# Altium footprint library Parts.PcbLib: 52 footprints (part 4 of 4)
Each footprint in its own frame and in the unit in brackets; x right, y up, seen from the top. Pads: shape width x height; smd on the part's side, far side on the other; paste and mask are expansions set on the pad; w line width, h text height; cw(c..) or ccw(c..) is an arc to the next point about the centre after c.
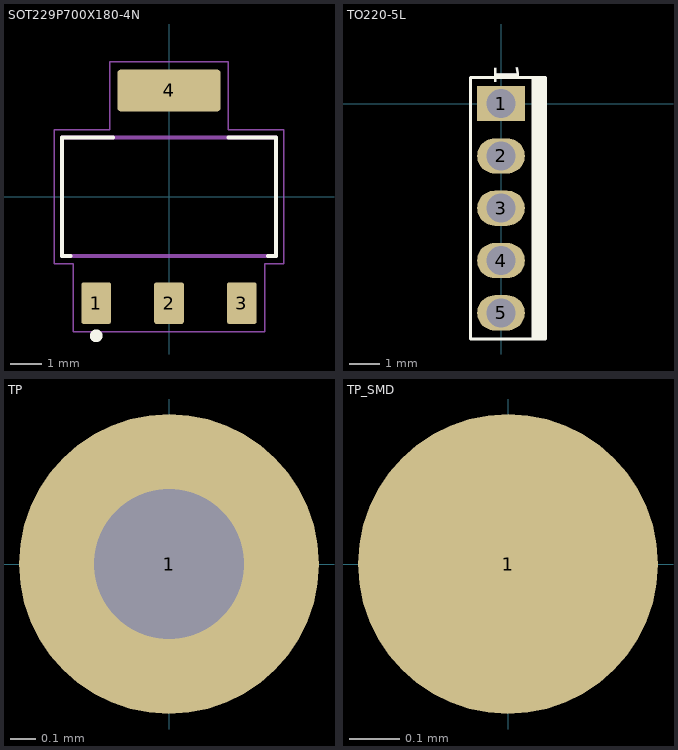
[diagram p3: the footprints below, top view; thin cyan lines are the x and y axes]

## SOT229P700X180-4N [mm]
pads (4):
  rrect15% 0.93x1.31 smd: 1(-2.29,-3.345) 2(0,-3.345) 3(2.29,-3.345)
  rrect15% 3.24x1.31 smd: 4(0,3.345)
Top Overlay:
  circle w0.2: c-2.29,-4.373 r0.1
  lines w0.127: -3.1,-1.86 -3.36,-1.86 -3.36,1.86 -1.76,1.86 ; 1.87,1.86 3.36,1.86 3.36,-1.86 3.11,-1.86
Mechanical 13:
  lines w0.127: -3.36,-1.86 -3.36,1.86 3.36,1.86 3.36,-1.86 -3.36,-1.86
Mechanical 15:
  lines w0.05: -3.61,-2.11 -3.61,2.11 -1.87,2.11 -1.87,4.25 1.87,4.25 1.87,2.11 3.61,2.11 3.61,-2.11 3.01,-2.11 3.01,-4.25 -3.01,-4.25 -3.01,-2.11 -3.61,-2.11

## TO220-5L [mm]
pads (5):
  rect 1.56x1.15 hole 0.95: 1(0,0)
  oval 1.56x1.15 hole 0.95: 2(0,-1.71) 3(0,-3.42) 4(0,-5.13) 5(0,-6.84)
Top Overlay:
  rectangle: 1.067,-7.695 1.448,0.855
  lines w0.1: 1.041,-7.695 1.041,-7.696 1.041,0.83 1.067,0.855 ; -0.991,-7.695 1.448,-7.695 1.448,0.855 -0.991,0.855 -0.991,-7.695
  text "1" at -0.225,1.3 h0.81

## TP [mm]
pads (1):
  round 1.2 hole 0.6: 1(0,0)

## TP_SMD [mm]
pads (1):
  round 0.6 smd: 1(0,0)